# Altium footprint library CHS-04A1.PcbLib: 1 footprints
Each footprint in its own frame and in the unit in brackets; x right, y up, seen from the top. Pads: shape width x height; smd on the part's side, far side on the other; paste and mask are expansions set on the pad; w line width, h text height; cw(c..) or ccw(c..) is an arc to the next point about the centre after c.
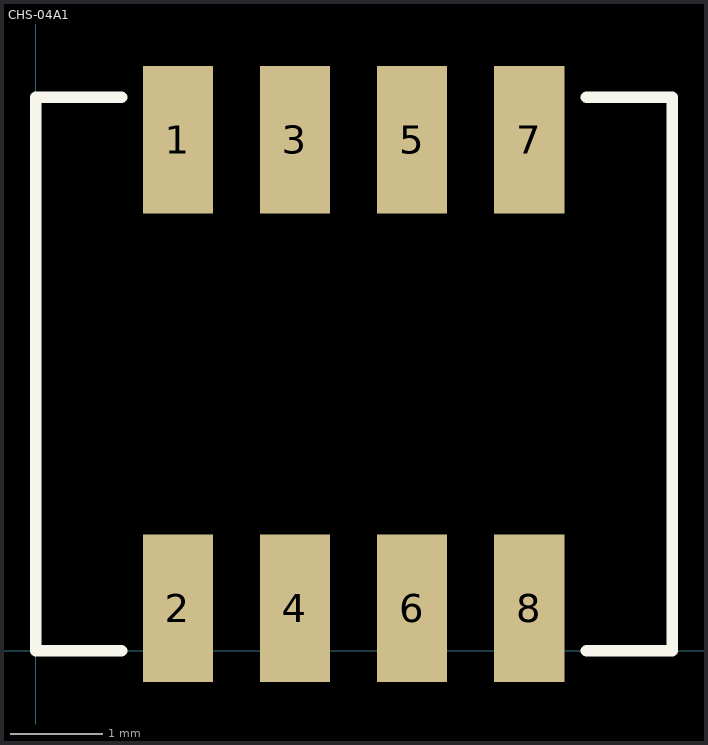
[diagram p0: the footprint, top view; thin cyan lines are the x and y axes]

## CHS-04A1 [mm]
pads (8):
  rect 0.76x1.6 smd: 1(1.54,5.54) 2(1.54,0.46) 3(2.81,5.54) 4(2.81,0.46) 5(4.08,5.54) 6(4.08,0.46) 7(5.35,5.54) 8(5.35,0.46)
Top Overlay:
  lines w0.127: 0.93,0 0,0 0,6 0.93,6 ; 5.97,0 6.9,0 6.9,6 5.97,6
3D body: height 2.75, standoff 0.2, extent 2.33,1 3.29,3
3D body: height 2.25, standoff 0.2, extent 4.87,0.97 6,5
3D body: height 2.25, standoff 0.2, extent 3.6,1 4.7,5
3D body: height 2.25, standoff 0.2, extent 2.33,1 3.4,5
3D body: height 2.25, standoff 0.2, extent 1.06,1 2.1,5
3D body: height 2.75, standoff 0.2, extent 1.06,1 2.02,3
3D body: height 2.75, standoff 0.2, extent 3.6,3 4.56,5
3D body: height 2.75, standoff 0.2, extent 4.87,1 5.83,3
3D body: height 2.5, standoff 0.2, extent 0,0 6.9,6
3D body: height 2.5, standoff 0.2, extent 2.02,1 2.33,5
3D body: height 2.5, standoff 0.2, extent 3.29,1 3.6,5
3D body: height 2.5, standoff 0.2, extent 4.56,1 4.87,5
3D body: height 1.5, standoff 0.2, extent 1.06,1 2.1,5
3D body: height 1.5, standoff 0.2, extent 2.33,1 3.4,5
3D body: height 1.5, standoff 0.2, extent 3.6,1 4.7,5
3D body: height 1.5, standoff 0.2, extent 4.87,0.97 6,5
3D body: height 1.5, standoff 0, extent 1.06,6 2.02,6.2
3D body: height 1.5, standoff 0, extent 2.33,6 3.29,6.2
3D body: height 1.5, standoff 0, extent 3.6,6 4.56,6.2
3D body: height 1.5, standoff 0, extent 4.87,6 5.83,6.2
3D body: height 1.5, standoff 0, extent 1.06,-0.2 2.01,0
3D body: height 1.5, standoff 0, extent 2.32,-0.2 3.28,0
3D body: height 1.5, standoff 0, extent 3.59,-0.2 4.55,0
3D body: height 1.5, standoff 0, extent 4.86,-0.2 5.82,0
3D body: height 0.2, standoff 0, extent 1.06,-0.2 2.01,0.8
3D body: height 0.2, standoff 0, extent 2.32,-0.2 3.28,0.8
3D body: height 0.2, standoff 0, extent 3.59,-0.2 4.55,0.8
3D body: height 0.2, standoff 0, extent 4.86,-0.2 5.82,0.8
3D body: height 0.2, standoff 0, extent 1.06,5.2 2.02,6.2
3D body: height 0.2, standoff 0, extent 2.33,5.2 3.29,6.2
3D body: height 0.2, standoff 0, extent 3.6,5.2 4.56,6.2
3D body: height 0.2, standoff 0, extent 4.87,5.2 5.83,6.2